# Altium footprint library 64tqfp10.PcbLib: 1 footprints
Each footprint in its own frame and in the unit in brackets; x right, y up, seen from the top. Pads: shape width x height; smd on the part's side, far side on the other; paste and mask are expansions set on the pad; w line width, h text height; cw(c..) or ccw(c..) is an arc to the next point about the centre after c.
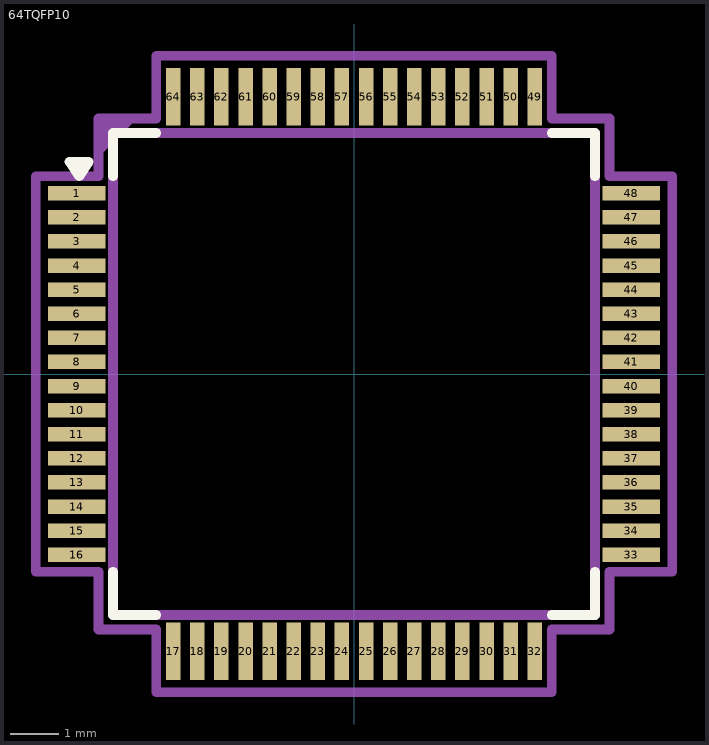
[diagram p0: the footprint, top view; thin cyan lines are the x and y axes]

## 64TQFP10 [mm] "TSQFP, 64-Leads, Body 12.0x12.0mm (max), Pitch 0.50mm, IPC High Density"
height 1.45
pads (64):
  rect 1.2x0.3 smd: 1(-5.75,3.75) 2(-5.75,3.25) 3(-5.75,2.75) 4(-5.75,2.25) 5(-5.75,1.75) 6(-5.75,1.25) 7(-5.75,0.75) 8(-5.75,0.25) 9(-5.75,-0.25) 10(-5.75,-0.75) 11(-5.75,-1.25) 12(-5.75,-1.75) 13(-5.75,-2.25) 14(-5.75,-2.75) 15(-5.75,-3.25) 16(-5.75,-3.75) 33(5.75,-3.75) 34(5.75,-3.25) 35(5.75,-2.75) 36(5.75,-2.25) 37(5.75,-1.75) 38(5.75,-1.25) 39(5.75,-0.75) 40(5.75,-0.25) 41(5.75,0.25) 42(5.75,0.75) 43(5.75,1.25) 44(5.75,1.75) 45(5.75,2.25) 46(5.75,2.75) 47(5.75,3.25) 48(5.75,3.75)
  rect 0.3x1.2 smd: 17(-3.75,-5.75) 18(-3.25,-5.75) 19(-2.75,-5.75) 20(-2.25,-5.75) 21(-1.75,-5.75) 22(-1.25,-5.75) 23(-0.75,-5.75) 24(-0.25,-5.75) 25(0.25,-5.75) 26(0.75,-5.75) 27(1.25,-5.75) 28(1.75,-5.75) 29(2.25,-5.75) 30(2.75,-5.75) 31(3.25,-5.75) 32(3.75,-5.75) 49(3.75,5.75) 50(3.25,5.75) 51(2.75,5.75) 52(2.25,5.75) 53(1.75,5.75) 54(1.25,5.75) 55(0.75,5.75) 56(0.25,5.75) 57(-0.25,5.75) 58(-0.75,5.75) 59(-1.25,5.75) 60(-1.75,5.75) 61(-2.25,5.75) 62(-2.75,5.75) 63(-3.25,5.75) 64(-3.75,5.75)
Top Overlay:
  region: -5.9,4.4 -5.5,4.4 -5.7,4.1
  lines w0.2: -5,-4.1 -5,-5 -4.1,-5 ; -5,4.1 -5,5 -4.1,5 ; 4.1,-5 5,-5 5,-4.1 ; 4.1,5 5,5 5,4.1 ; -5.9,4.4 -5.5,4.4 -5.7,4.1 -5.9,4.4
Top Designator:
  text ".Designator" at -1.35,-0.15 h0.6
Top 3D Body:
  lines w0.2: -5,-5 5,-5 5,5 -5,5 -5,-5
Top Courtyard:
  region: -5.3,5.3 -4.5,5.3 -5.3,4.5
  lines w0.2: -6.6,-4.1 -5.3,-4.1 -5.3,-5.3 -4.1,-5.3 -4.1,-6.6 4.1,-6.6 4.1,-5.3 5.3,-5.3 5.3,-4.1 6.6,-4.1 6.6,4.1 5.3,4.1 5.3,5.3 4.1,5.3 4.1,6.6 -4.1,6.6 -4.1,5.3 -5.3,5.3 -5.3,4.1 -6.6,4.1 -6.6,-4.1
3D body "User Library-IPC QFP-full (1).step": height 1.35, standoff 0, extent -6.014,-6.014 6.014,6.014